# EAGLE library part MAX3485CSA+ (library SamacSys_Parts)
MAX3485CSA+, Line Transceiver, RS-485, RS-422 10 Mbit/s Differential, 3.3 V, 8-Pin SOIC Source: Datasheet <http://datasheets.maximintegrated.com/en/ds/MAX3483-MAX3491.pdf>
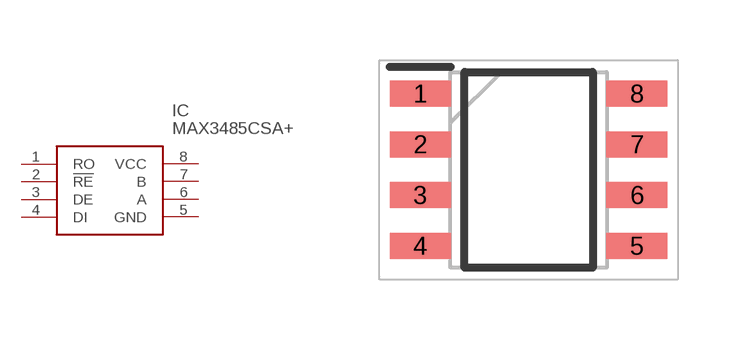
[diagram p15: symbol with the pads of SOIC127P600X175-8N; footprint SOIC127P600X175-8N]

Designator prefix IC

## MAX3485CSA+ (ARROW_PART_NUMBER: MAX3485CSA+; ARROW_PRICE-STOCK: https://www.arrow.com/en/products/max3485csa/maxim-integrated?region=nac; DESCRIPTION: MAX3485CSA+, Line Transceiver, RS-485, RS-422 10 Mbit/s Differential, 3.3 V, 8-Pin SOIC; HEIGHT: 1.75mm; MANUFACTURER_NAME: Maxim Integrated; MANUFACTURER_PART_NUMBER: MAX3485CSA+; MOUSER_PART_NUMBER: 700-MAX3485CSA; MOUSER_PRICE-STOCK: https://www.mouser.co.uk/ProductDetail/Maxim-Integrated/MAX3485CSA%2b?qs=1THa7WoU59EwF6JizZr35Q%3D%3D)  [SOIC127P600X175-8N]
1  RO
2  !RE
3  DE
4  DI
5  GND
6  A
7  B
8  VCC

## Footprint SOIC127P600X175-8N (pad centres in mm)
SOIC8
smd 1.525 x 0.65: 1 -2.712,1.905; 2 -2.712,0.635; 3 -2.712,-0.635; 4 -2.712,-1.905; 5 2.712,-1.905; 6 2.712,-0.635; 7 2.712,0.635; 8 2.712,1.905